# Altium schematic symbol library NX3020NAK-QR.SchLib: 1 symbol
Pins are listed as number, name and electrical type; pins without a type are passive.

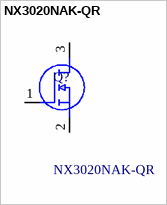
[diagram p0: symbol NX3020NAK-QR]

## NX3020NAK-QR
designator Q?
30 V, N-channel Trench MOSFET; Manufacturer_Name: Nexperia; Geometry.Height: 1.1mm; Mouser Part Number: *; Mouser Price/Stock: *; Manufacturer_Part_Number: NX3020NAK-QR; Datasheet Link: https://assets.nexperia.com/documents/data-sheet/NX3020NAK.pdf
footprint SOT95P230X110-3N
pins: 1 G, 2 S, 3 D